# EAGLE library part MAX15062 (library power_dist)
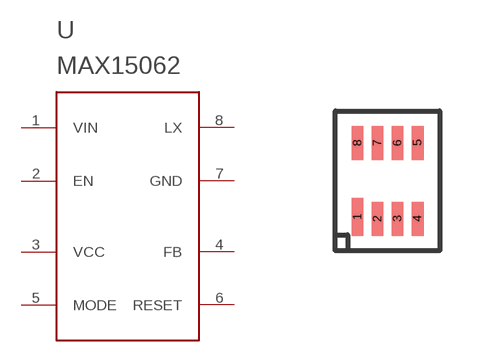
[diagram p1: symbol with the pads of 8TDFN; footprint 8TDFN]

Designator prefix -

## MAX150628TDFN  [8TDFN]
1  VIN  pas
2  EN  pas
3  VCC  pas
4  FB  pas
5  MODE  pas
6  RESET  pas
7  GND  pas
8  LX  pas

## Footprint 8TDFN (pad centres in mm)
smd 0.3 x 0.95: 1 -0.75,-0.9
smd 0.3 x 0.85: 2 -0.25,-0.95; 3 0.25,-0.95; 4 0.75,-0.95; 5 0.75,0.95; 6 0.25,0.95; 7 -0.25,0.95; 8 -0.75,0.95